# Altium integrated library Crystals_Oscillators.IntLib: 5 symbols
Pins are listed as number, name and electrical type; pins without a type are passive.

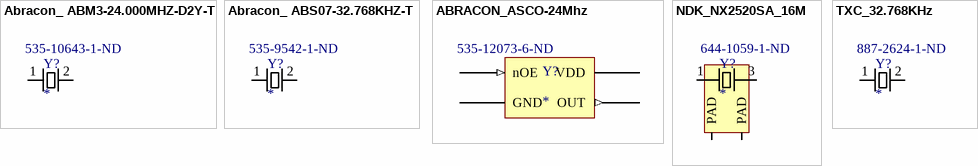
[diagram p0: symbols Abracon_ ABM3-24.000MHZ-D2Y-T to TXC_32.768KHz]

## Abracon_ ABM3-24.000MHZ-D2Y-T
designator Y?  Supplier Part Number 1: 535-10643-1-ND
24MHz Crystal; Supplier 1: Digi-Key
footprint ABM3-24.000MHZ-D2Y-T (24MHz Crystal)
pins: 1, 2

## Abracon_ ABS07-32.768KHZ-T
designator Y?  Supplier Part Number 1: 535-9542-1-ND
32.768kHz Crystal; Supplier 1: Digi-Key
footprint ABS07-32.768KHZ-T (32.768kHz Crystal)
pins: 1, 2

## ABRACON_ASCO-24Mhz
designator Y?  Supplier Part Number 1: 535-12073-6-ND
24.000MHZ CMOS SMD; Supplier 1: Digikey
footprint ASCO-24.000MHZ-EK-T3 (DFN, 4-Leads, Body 1.60x1.20mm, Pitch 0.70mm, IPC High Density)
pins: 1 nOE (in), 2 GND (power), 3 OUT (out), 4 VDD (power)

## NDK_NX2520SA_16M
designator Y?  Supplier Part Number 1: 644-1059-1-ND
16MHz Crystal; Supplier 1: Digi-Key
footprint NX2520SA-16MHz (DFN, 4-Leads, Body 2.00x2.50mm, Pitch 1.70mm, IPC High Density)
pins: 1, 2 PAD (power), 3, 4 PAD (power)

## TXC_32.768KHz
designator Y?  Supplier Part Number 1: 887-2624-1-ND
32.768kHz Crystal; Supplier 1: Digi-Key
footprint TXC_32.768_DFN2 (DFN, 2-Leads, Body 1.00x1.60mm, Pitch 1.06mm, IPC High Density)
pins: 1, 2